# Altium schematic symbol library SCH - MCU - ATMEGA - MICROCHIP ATMEGA169A-MCH DRQFN64.SchLib: 1 symbol
Pins are listed as number, name and electrical type; pins without a type are passive.

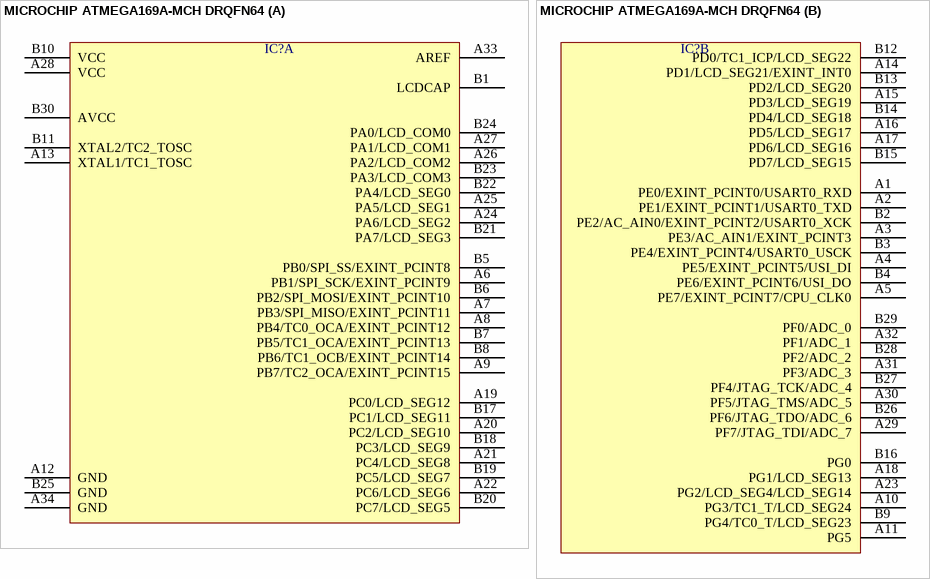
[diagram p0: symbol MICROCHIP ATMEGA169A-MCH DRQFN64]

## MICROCHIP ATMEGA169A-MCH DRQFN64
designator IC?  (value not drawn)
part A pins: A6 PB1/SPI_SCK/EXINT_PCINT9, A7 PB3/SPI_MISO/EXINT_PCINT11, A8 PB4/TC0_OCA/EXINT_PCINT12, A9 PB7/TC2_OCA/EXINT_PCINT15, A12 GND, A13 XTAL1/TC1_TOSC, A19 PC0/LCD_SEG12, A20 PC2/LCD_SEG10, A21 PC4/LCD_SEG8, A22 PC6/LCD_SEG6, A24 PA6/LCD_SEG2, A25 PA5/LCD_SEG1, A26 PA2/LCD_COM2, A27 PA1/LCD_COM1, A28 VCC, A33 AREF, A34 GND, B1 LCDCAP, B5 PB0/SPI_SS/EXINT_PCINT8, B6 PB2/SPI_MOSI/EXINT_PCINT10, B7 PB5/TC1_OCA/EXINT_PCINT13, B8 PB6/TC1_OCB/EXINT_PCINT14, B10 VCC, B11 XTAL2/TC2_TOSC, B17 PC1/LCD_SEG11, B18 PC3/LCD_SEG9, B19 PC5/LCD_SEG7, B20 PC7/LCD_SEG5, B21 PA7/LCD_SEG3, B22 PA4/LCD_SEG0, B23 PA3/LCD_COM3, B24 PA0/LCD_COM0, B25 GND, B30 AVCC
part B pins: A1 PE0/EXINT_PCINT0/USART0_RXD, A2 PE1/EXINT_PCINT1/USART0_TXD, A3 PE3/AC_AIN1/EXINT_PCINT3, A4 PE5/EXINT_PCINT5/USI_DI, A5 PE7/EXINT_PCINT7/CPU_CLK0, A10 PG3/TC1_T/LCD_SEG24, A11 PG5, A14 PD1/LCD_SEG21/EXINT_INT0, A15 PD3/LCD_SEG19, A16 PD5/LCD_SEG17, A17 PD6/LCD_SEG16, A18 PG1/LCD_SEG13, A23 PG2/LCD_SEG4/LCD_SEG14, A29 PF7/JTAG_TDI/ADC_7, A30 PF5/JTAG_TMS/ADC_5, A31 PF3/ADC_3, A32 PF1/ADC_1, B2 PE2/AC_AIN0/EXINT_PCINT2/USART0_XCK, B3 PE4/EXINT_PCINT4/USART0_USCK, B4 PE6/EXINT_PCINT6/USI_DO, B9 PG4/TC0_T/LCD_SEG23, B12 PD0/TC1_ICP/LCD_SEG22, B13 PD2/LCD_SEG20, B14 PD4/LCD_SEG18, B15 PD7/LCD_SEG15, B16 PG0, B26 PF6/JTAG_TDO/ADC_6, B27 PF4/JTAG_TCK/ADC_4, B28 PF2/ADC_2, B29 PF0/ADC_0